# Altium footprint library Lib Pcb.PcbLib: 84 footprints (part 2 of 6)
Each footprint in its own frame and in the unit in brackets; x right, y up, seen from the top. Pads: shape width x height; smd on the part's side, far side on the other; paste and mask are expansions set on the pad; w line width, h text height; cw(c..) or ccw(c..) is an arc to the next point about the centre after c.
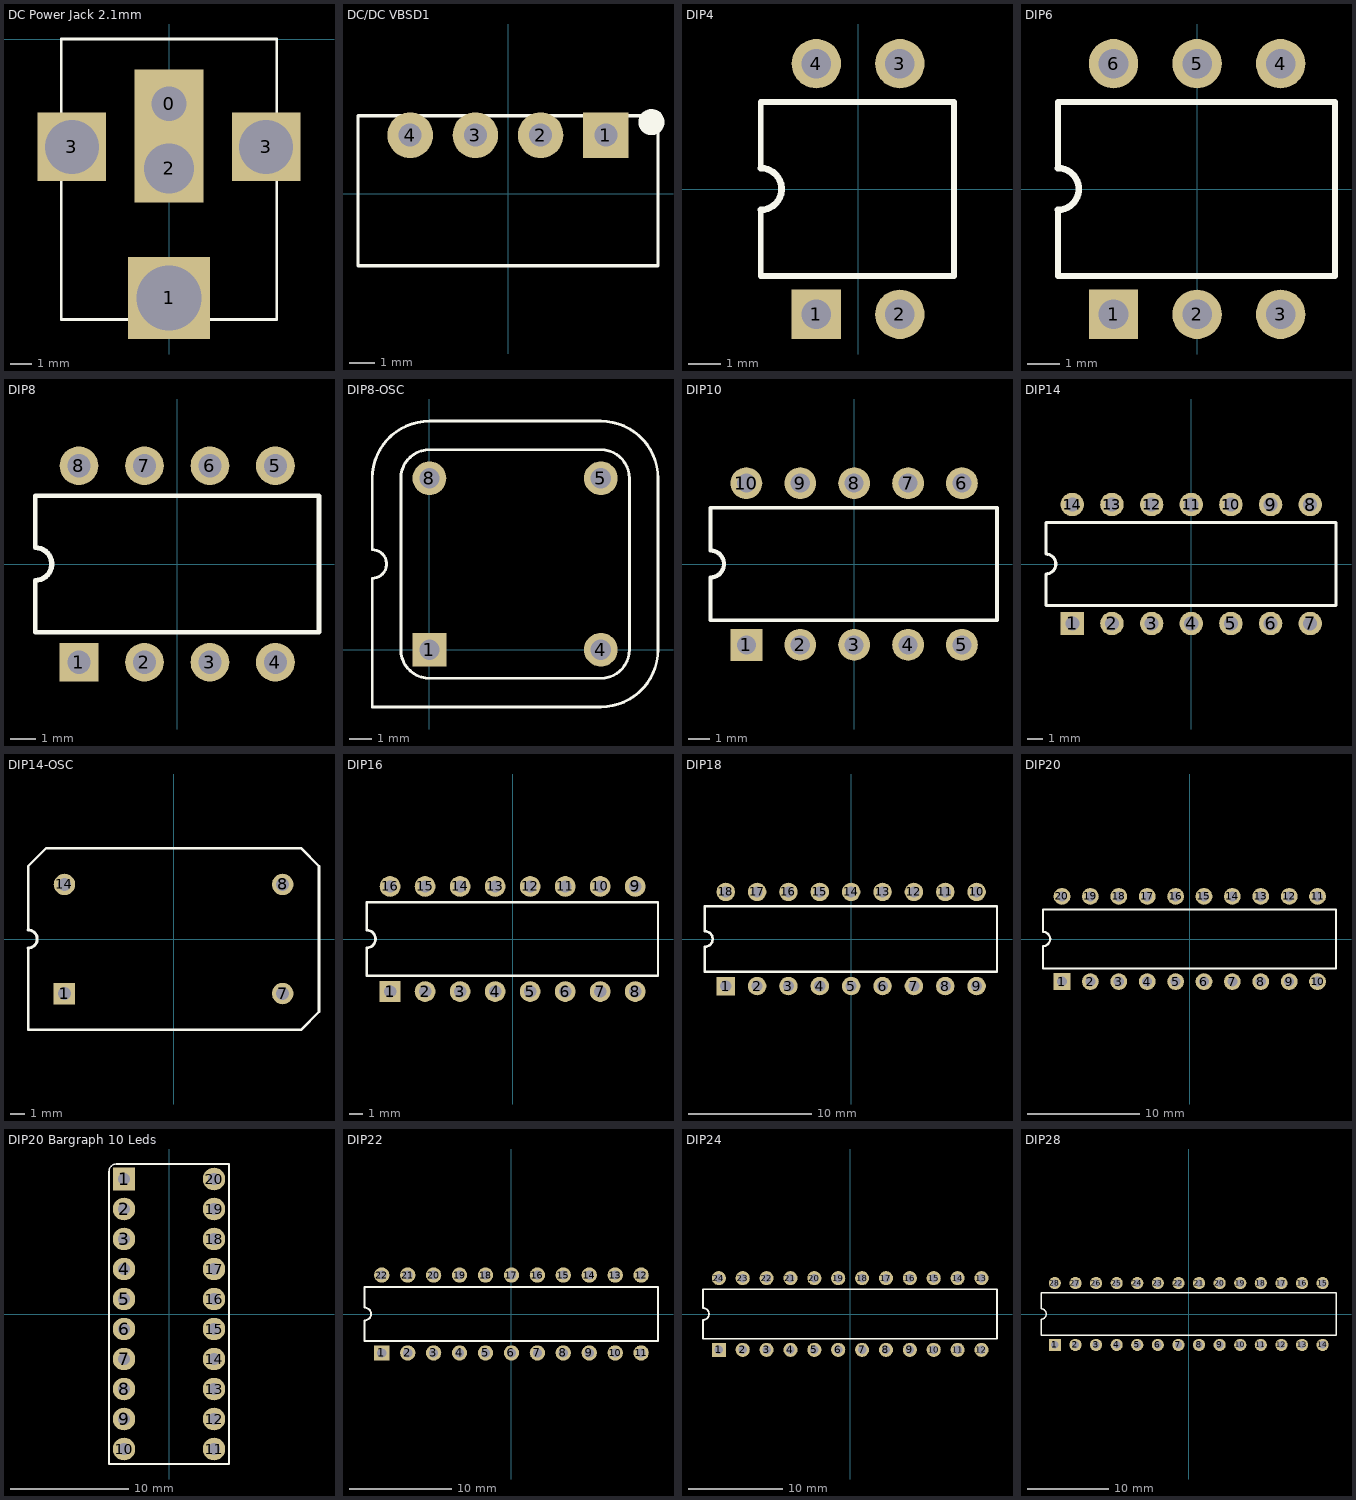
[diagram p1: the footprints below, top view; thin cyan lines are the x and y axes]

## DC Power Jack 2.1mm [mm] "CUI  PJ-063AH"
height 9.017
pads (5):
  rect 3.175x3.175 hole 1.6: 0(0,-3)
  rect 3.81x3.81 hole 3: 1(0,-12)
  rect 3.175x3.175 hole 2.301: 2(0,-6)
  rect 3.175x3.175 hole 2.499: 3(-4.5,-5) 3(4.5,-5)
Top Overlay:
  lines w0.127: -5,-13 5,-13 5,0 -5,0 -5,-13
3D body: height 8.99, standoff 0, extent -0.025,-0.013 0.025,0.112
3D body: height 5.03, standoff 4.98, extent -5,0 5,0.1
3D body: height 7.85, standoff 2.16, extent -2.8,0.013 2.8,0.088
3D body: height 8.99, standoff 0.13, extent -5,-12 5,-0.5
3D body: height 8.99, standoff 0.13, extent -5,-0.5 5,0
3D body: height 8.99, standoff 0.13, extent -5,-13 5,-12

## DC/DC VBSD1 [mil] "DC/DC"
height 400
pads (4):
  rect 70x70 hole 35.4: 1(150,90)
  round 70 hole 35.4: 2(50,90) 3(-50,90) 4(-150,90)
Top Overlay:
  circle w20: c220,110 r10
  lines w5: -230,-110 230,-110 230,120 -230,120 -230,-110
3D body: height 400, standoff 10, extent -230,-110 230,120

## DIP4 [mm] "DIP4"
height 3.81
pads (4):
  rect 1.5x1.5 hole 0.9: 1(-1.27,-3.81)
  round 1.5 hole 0.9: 2(1.27,-3.81) 3(1.27,3.81) 4(-1.27,3.81)
Top Overlay:
  lines w0.178: -2.96,-0.635 -2.96,-2.65 2.921,-2.65 2.921,2.65 -2.96,2.65 -2.96,0.635
  lines w0.2: -2.96,-0.635 ccw(c-2.96,0) -2.96,0.635
3D body: height 1.27, standoff 0.25, extent -1.651,2.794 -0.889,4.191
3D body: height 1.27, standoff 0.25, extent 0.889,-4.191 1.651,-2.794
3D body: height 1.27, standoff 0.25, extent 0.889,2.794 1.651,4.191
3D body: height 1.27, standoff 0.25, extent -1.651,-4.191 -0.889,-2.794
3D body: height 2.54, standoff 0.25, extent -3.048,-2.794 3.048,2.794
3D body: height 0.25, standoff -0.76, extent -1.648,-4.19 -0.889,-3.43
3D body: height 0.25, standoff -0.76, extent 0.892,-4.19 1.651,-3.43
3D body: height 0.25, standoff -0.76, extent 0.892,3.43 1.651,4.19
3D body: height 0.25, standoff -0.76, extent -1.648,3.43 -0.889,4.19

## DIP6 [mm] "DIP6"
height 3.81
pads (6):
  rect 1.5x1.5 hole 0.9: 1(-2.54,-3.81)
  round 1.5 hole 0.9: 2(0,-3.81) 3(2.54,-3.81) 4(2.54,3.81) 5(0,3.81) 6(-2.54,3.81)
Top Overlay:
  lines w0.178: -4.23,-0.635 -4.23,-2.65 4.191,-2.65 4.191,2.65 -4.23,2.65 -4.23,0.635
  lines w0.2: -4.23,-0.635 ccw(c-4.23,0) -4.23,0.635
3D body: height 2.54, standoff 0.25, extent -4.318,-2.794 4.318,2.794
3D body: height 1.27, standoff 0.25, extent -2.921,-4.191 -2.159,-2.794
3D body: height 1.27, standoff 0.25, extent -0.381,2.794 0.381,4.191
3D body: height 1.27, standoff 0.25, extent 2.159,2.794 2.921,4.191
3D body: height 1.27, standoff 0.25, extent -0.381,-4.191 0.381,-2.794
3D body: height 1.27, standoff 0.25, extent 2.159,-4.191 2.921,-2.794
3D body: height 1.27, standoff 0.25, extent -2.921,2.794 -2.159,4.191
3D body: height 0.25, standoff -0.76, extent -2.918,3.43 -2.159,4.19
3D body: height 0.25, standoff -0.76, extent -0.378,3.43 0.381,4.19
3D body: height 0.25, standoff -0.76, extent 2.162,3.43 2.921,4.19
3D body: height 0.25, standoff -0.76, extent 2.162,-4.19 2.921,-3.43
3D body: height 0.25, standoff -0.76, extent -0.378,-4.19 0.381,-3.43
3D body: height 0.25, standoff -0.76, extent -2.918,-4.19 -2.159,-3.43

## DIP8 [mm] "DIP8"
height 3.81
pads (8):
  rect 1.5x1.5 hole 0.9: 1(-3.81,-3.81)
  round 1.5 hole 0.9: 2(-1.27,-3.81) 3(1.27,-3.81) 4(3.81,-3.81) 5(3.81,3.81) 6(1.27,3.81) 7(-1.27,3.81) 8(-3.81,3.81)
Top Overlay:
  lines w0.178: -5.5,-0.635 -5.5,-2.65 5.5,-2.65 5.5,2.65 -5.5,2.65 -5.5,0.635
  lines w0.2: -5.5,-0.635 ccw(c-5.5,0) -5.5,0.635
3D body: height 2.54, standoff 0.25, extent -5.588,-2.794 5.588,2.794
3D body: height 1.27, standoff 0.25, extent -4.191,-4.191 -3.429,-2.794
3D body: height 1.27, standoff 0.25, extent -1.651,2.794 -0.889,4.191
3D body: height 1.27, standoff 0.25, extent 0.889,2.794 1.651,4.191
3D body: height 1.27, standoff 0.25, extent -1.651,-4.191 -0.889,-2.794
3D body: height 1.27, standoff 0.25, extent 0.889,-4.191 1.651,-2.794
3D body: height 1.27, standoff 0.25, extent 3.429,-4.191 4.191,-2.794
3D body: height 1.27, standoff 0.25, extent -4.191,2.794 -3.429,4.191
3D body: height 1.27, standoff 0.25, extent 3.429,2.794 4.191,4.191
3D body: height 0.25, standoff -0.76, extent -4.188,3.43 -3.429,4.19
3D body: height 0.25, standoff -0.76, extent -1.648,3.43 -0.889,4.19
3D body: height 0.25, standoff -0.76, extent 0.892,3.43 1.651,4.19
3D body: height 0.25, standoff -0.76, extent 3.432,3.43 4.191,4.19
3D body: height 0.25, standoff -0.76, extent 3.432,-4.19 4.191,-3.43
3D body: height 0.25, standoff -0.76, extent 0.892,-4.19 1.651,-3.43
3D body: height 0.25, standoff -0.76, extent -1.648,-4.19 -0.889,-3.43
3D body: height 0.25, standoff -0.76, extent -4.188,-4.19 -3.429,-3.43

## DIP8-OSC [mm] "DIP8-OSC"
height 3.81
pads (4):
  rect 1.5x1.5 hole 0.9: 1(0,0)
  round 1.5 hole 0.9: 4(7.62,0) 5(7.62,7.62) 8(0,7.62)
Top Overlay:
  lines w0.127: -2.54,-2.54 7.62,-2.54 ccw(c7.62,0) 10.16,0 10.16,7.62 ccw(c7.62,7.62) 7.62,10.16 0,10.16 ccw(c0,7.62) -2.54,7.62 -2.54,4.445 cw(c-2.54,3.81) -2.54,3.175 -2.54,-2.54 ; -1.27,0 ccw(c0,0) 0,-1.27 7.62,-1.27 ccw(c7.62,0) 8.89,0 8.89,7.62 ccw(c7.62,7.62) 7.62,8.89 0,8.89 ccw(c0,7.62) -1.27,7.62 -1.27,0
3D body: height 5.08, standoff 0.51, extent -1.27,-1.27 8.89,8.89
3D body: height 0.25, standoff -0.76, extent -0.378,-0.38 0.381,0.38
3D body: height 0.25, standoff -0.76, extent 7.242,-0.38 8.001,0.38
3D body: height 0.25, standoff -0.76, extent 7.242,7.24 8.001,8
3D body: height 0.25, standoff -0.76, extent -0.378,7.24 0.381,8
3D body: height 5.33, standoff 5.08, extent -0.831,-0.836 0.838,0.837
3D body: height 0.51, standoff 0.25, extent -2.54,-2.54 10.16,10.16

## DIP10 [mm] "DIP10"
height 3.81
pads (10):
  rect 1.5x1.5 hole 0.9: 1(-5.08,-3.81)
  round 1.5 hole 0.9: 2(-2.54,-3.81) 3(0,-3.81) 4(2.54,-3.81) 5(5.08,-3.81) 6(5.08,3.81) 7(2.54,3.81) 8(0,3.81) 9(-2.54,3.81) 10(-5.08,3.81)
Top Overlay:
  lines w0.178: -6.77,-0.635 -6.77,-2.65 6.731,-2.65 6.731,2.65 -6.77,2.65 -6.77,0.635
  lines w0.2: -6.77,-0.635 ccw(c-6.77,0) -6.77,0.635
3D body: height 1.27, standoff 0.25, extent 4.699,2.794 5.461,4.191
3D body: height 2.54, standoff 0.25, extent -6.858,-2.794 6.858,2.794
3D body: height 1.27, standoff 0.25, extent -2.921,2.794 -2.159,4.191
3D body: height 1.27, standoff 0.25, extent -0.381,2.794 0.381,4.191
3D body: height 1.27, standoff 0.25, extent -5.461,2.794 -4.699,4.191
3D body: height 1.27, standoff 0.25, extent 2.159,2.794 2.921,4.191
3D body: height 1.27, standoff 0.25, extent 4.699,-4.191 5.461,-2.794
3D body: height 1.27, standoff 0.25, extent -2.921,-4.191 -2.159,-2.794
3D body: height 1.27, standoff 0.25, extent -0.381,-4.191 0.381,-2.794
3D body: height 1.27, standoff 0.25, extent -5.461,-4.191 -4.699,-2.794
3D body: height 1.27, standoff 0.25, extent 2.159,-4.191 2.921,-2.794
3D body: height 0.25, standoff -0.76, extent -5.458,3.43 -4.699,4.19
3D body: height 0.25, standoff -0.76, extent -2.918,3.43 -2.159,4.19
3D body: height 0.25, standoff -0.76, extent -0.378,3.43 0.381,4.19
3D body: height 0.25, standoff -0.76, extent 2.162,3.43 2.921,4.19
3D body: height 0.25, standoff -0.76, extent 4.702,3.43 5.461,4.19
3D body: height 0.25, standoff -0.76, extent 4.702,-4.19 5.461,-3.43
3D body: height 0.25, standoff -0.76, extent 2.162,-4.19 2.921,-3.43
3D body: height 0.25, standoff -0.76, extent -0.378,-4.19 0.381,-3.43
3D body: height 0.25, standoff -0.76, extent -2.918,-4.19 -2.159,-3.43
3D body: height 0.25, standoff -0.76, extent -5.458,-4.19 -4.699,-3.43

## DIP14 [mm] "DIP14"
height 3.81
pads (14):
  rect 1.5x1.5 hole 0.9: 1(-7.62,-3.81)
  round 1.5 hole 0.9: 2(-5.08,-3.81) 3(-2.54,-3.81) 4(0,-3.81) 5(2.54,-3.81) 6(5.08,-3.81) 7(7.62,-3.81) 8(7.62,3.81) 9(5.08,3.81) 10(2.54,3.81) 11(0,3.81) 12(-2.54,3.81) 13(-5.08,3.81) 14(-7.62,3.81)
Top Overlay:
  lines w0.178: -9.31,-0.635 -9.31,-2.65 9.271,-2.65 9.271,2.65 -9.31,2.65 -9.31,0.635
  lines w0.2: -9.31,-0.635 ccw(c-9.31,0) -9.31,0.635
3D body: height 1.27, standoff 0.25, extent -0.381,-4.191 0.381,-2.794
3D body: height 1.27, standoff 0.25, extent -8.001,-4.191 -7.239,-2.794
3D body: height 1.27, standoff 0.25, extent -2.921,-4.191 -2.159,-2.794
3D body: height 1.27, standoff 0.25, extent -5.461,-4.191 -4.699,-2.794
3D body: height 1.27, standoff 0.25, extent 2.159,-4.191 2.921,-2.794
3D body: height 1.27, standoff 0.25, extent 4.699,-4.191 5.461,-2.794
3D body: height 1.27, standoff 0.25, extent -0.381,2.794 0.381,4.191
3D body: height 1.27, standoff 0.25, extent -8.001,2.794 -7.239,4.191
3D body: height 1.27, standoff 0.25, extent -2.921,2.794 -2.159,4.191
3D body: height 1.27, standoff 0.25, extent -5.461,2.794 -4.699,4.191
3D body: height 2.54, standoff 0.25, extent -9.398,-2.794 9.398,2.794
3D body: height 1.27, standoff 0.25, extent 7.239,-4.191 8.001,-2.794
3D body: height 1.27, standoff 0.25, extent 4.699,2.794 5.461,4.191
3D body: height 1.27, standoff 0.25, extent 7.239,2.794 8.001,4.191
3D body: height 1.27, standoff 0.25, extent 2.159,2.794 2.921,4.191
3D body: height 0.25, standoff -0.76, extent -7.998,3.43 -7.239,4.19
3D body: height 0.25, standoff -0.76, extent -5.458,3.43 -4.699,4.19
3D body: height 0.25, standoff -0.76, extent -2.918,3.43 -2.159,4.19
3D body: height 0.25, standoff -0.76, extent -0.378,3.43 0.381,4.19
3D body: height 0.25, standoff -0.76, extent 2.162,3.43 2.921,4.19
3D body: height 0.25, standoff -0.76, extent 4.702,3.43 5.461,4.19
3D body: height 0.25, standoff -0.76, extent 7.242,3.43 8.001,4.19
3D body: height 0.25, standoff -0.76, extent 7.242,-4.19 8.001,-3.43
3D body: height 0.25, standoff -0.76, extent 4.702,-4.19 5.461,-3.43
3D body: height 0.25, standoff -0.76, extent 2.162,-4.19 2.921,-3.43
3D body: height 0.25, standoff -0.76, extent -0.378,-4.19 0.381,-3.43
3D body: height 0.25, standoff -0.76, extent -2.918,-4.19 -2.159,-3.43
3D body: height 0.25, standoff -0.76, extent -5.458,-4.19 -4.699,-3.43
3D body: height 0.25, standoff -0.76, extent -7.998,-4.19 -7.239,-3.43

## DIP14-OSC [mm] "DIP14-OSC"
height 3.81
pads (4):
  rect 1.5x1.5 hole 0.9: 1(-7.62,-3.81)
  round 1.5 hole 0.9: 7(7.62,-3.81) 8(7.62,3.81) 14(-7.62,3.81)
Top Overlay:
  lines w0.178: -10.16,-0.635 -10.16,-6.35 8.89,-6.35 10.16,-5.08 10.16,5.08 8.89,6.35 -8.89,6.35 -10.16,5.08 -10.16,0.635
  lines w0.2: -10.16,-0.635 ccw(c-10.16,0) -10.16,0.635
3D body: height 0.25, standoff -0.76, extent -7.998,-4.19 -7.239,-3.43
3D body: height 0.25, standoff -0.76, extent 7.242,-4.19 8.001,-3.43
3D body: height 0.25, standoff -0.76, extent 7.242,3.43 8.001,4.19
3D body: height 0.25, standoff -0.76, extent -7.998,3.43 -7.239,4.19
3D body: height 5.33, standoff 5.08, extent -9.874,-6.069 -8.204,-4.396
3D body: height 5.08, standoff 0.25, extent -10.16,-6.35 10.16,6.35

## DIP16 [mm] "DIP16"
height 3.81
pads (16):
  rect 1.5x1.5 hole 0.9: 1(-8.89,-3.81)
  round 1.5 hole 0.9: 2(-6.35,-3.81) 3(-3.81,-3.81) 4(-1.27,-3.81) 5(1.27,-3.81) 6(3.81,-3.81) 7(6.35,-3.81) 8(8.89,-3.81) 9(8.89,3.81) 10(6.35,3.81) 11(3.81,3.81) 12(1.27,3.81) 13(-1.27,3.81) 14(-3.81,3.81) 15(-6.35,3.81) 16(-8.89,3.81)
Top Overlay:
  lines w0.178: -10.58,-0.635 -10.58,-2.65 10.541,-2.65 10.541,2.65 -10.58,2.65 -10.58,0.635
  lines w0.2: -10.58,-0.635 ccw(c-10.58,0) -10.58,0.635
3D body: height 1.27, standoff 0.25, extent -9.271,2.794 -8.509,4.191
3D body: height 1.27, standoff 0.25, extent -6.731,2.794 -5.969,4.191
3D body: height 1.27, standoff 0.25, extent 5.969,2.794 6.731,4.191
3D body: height 1.27, standoff 0.25, extent 8.509,-4.191 9.271,-2.794
3D body: height 1.27, standoff 0.25, extent 8.509,2.794 9.271,4.191
3D body: height 1.27, standoff 0.25, extent 5.969,-4.191 6.731,-2.794
3D body: height 2.54, standoff 0.25, extent -10.668,-2.794 10.668,2.794
3D body: height 1.27, standoff 0.25, extent -1.651,2.794 -0.889,4.191
3D body: height 1.27, standoff 0.25, extent 0.889,2.794 1.651,4.191
3D body: height 1.27, standoff 0.25, extent -4.191,2.794 -3.429,4.191
3D body: height 1.27, standoff 0.25, extent 3.429,2.794 4.191,4.191
3D body: height 1.27, standoff 0.25, extent 3.429,-4.191 4.191,-2.794
3D body: height 1.27, standoff 0.25, extent 0.889,-4.191 1.651,-2.794
3D body: height 1.27, standoff 0.25, extent -6.731,-4.191 -5.969,-2.794
3D body: height 1.27, standoff 0.25, extent -4.191,-4.191 -3.429,-2.794
3D body: height 1.27, standoff 0.25, extent -9.271,-4.191 -8.509,-2.794
3D body: height 1.27, standoff 0.25, extent -1.651,-4.191 -0.889,-2.794
3D body: height 0.25, standoff -0.76, extent -6.728,3.43 -5.969,4.19
3D body: height 0.25, standoff -0.76, extent -4.188,3.43 -3.429,4.19
3D body: height 0.25, standoff -0.76, extent -1.648,3.43 -0.889,4.19
3D body: height 0.25, standoff -0.76, extent 0.892,3.43 1.651,4.19
3D body: height 0.25, standoff -0.76, extent 3.432,3.43 4.191,4.19
3D body: height 0.25, standoff -0.76, extent 5.972,3.43 6.731,4.19
3D body: height 0.25, standoff -0.76, extent 8.512,3.43 9.271,4.19
3D body: height 0.25, standoff -0.76, extent 8.512,-4.19 9.271,-3.43
3D body: height 0.25, standoff -0.76, extent 5.972,-4.19 6.731,-3.43
3D body: height 0.25, standoff -0.76, extent 3.432,-4.19 4.191,-3.43
3D body: height 0.25, standoff -0.76, extent 0.892,-4.19 1.651,-3.43
3D body: height 0.25, standoff -0.76, extent -1.648,-4.19 -0.889,-3.43
3D body: height 0.25, standoff -0.76, extent -4.188,-4.19 -3.429,-3.43
3D body: height 0.25, standoff -0.76, extent -6.728,-4.19 -5.969,-3.43
3D body: height 0.25, standoff -0.76, extent -9.268,-4.19 -8.509,-3.43
3D body: height 0.25, standoff -0.76, extent -9.268,3.43 -8.509,4.19

## DIP18 [mm] "DIP18"
height 3.81
pads (18):
  rect 1.5x1.5 hole 0.9: 1(-10.16,-3.81)
  round 1.5 hole 0.9: 2(-7.62,-3.81) 3(-5.08,-3.81) 4(-2.54,-3.81) 5(0,-3.81) 6(2.54,-3.81) 7(5.08,-3.81) 8(7.62,-3.81) 9(10.16,-3.81) 10(10.16,3.81) 11(7.62,3.81) 12(5.08,3.81) 13(2.54,3.81) 14(0,3.81) 15(-2.54,3.81) 16(-5.08,3.81) 17(-7.62,3.81) 18(-10.16,3.81)
Top Overlay:
  lines w0.178: -11.85,-0.635 -11.85,-2.65 11.811,-2.65 11.811,2.65 -11.85,2.65 -11.85,0.635
  lines w0.2: -11.85,-0.635 ccw(c-11.85,0) -11.85,0.635
3D body: height 1.27, standoff 0.25, extent -8.001,2.794 -7.239,4.191
3D body: height 1.27, standoff 0.25, extent -10.541,2.794 -9.779,4.191
3D body: height 1.27, standoff 0.25, extent -5.461,2.794 -4.699,4.191
3D body: height 1.27, standoff 0.25, extent -2.921,2.794 -2.159,4.191
3D body: height 1.27, standoff 0.25, extent 9.779,2.794 10.541,4.191
3D body: height 1.27, standoff 0.25, extent 7.239,-4.191 8.001,-2.794
3D body: height 1.27, standoff 0.25, extent 9.779,-4.191 10.541,-2.794
3D body: height 1.27, standoff 0.25, extent 4.699,-4.191 5.461,-2.794
3D body: height 2.54, standoff 0.25, extent -11.938,-2.794 11.938,2.794
3D body: height 1.27, standoff 0.25, extent 2.159,2.794 2.921,4.191
3D body: height 1.27, standoff 0.25, extent 4.699,2.794 5.461,4.191
3D body: height 1.27, standoff 0.25, extent -0.381,2.794 0.381,4.191
3D body: height 1.27, standoff 0.25, extent 7.239,2.794 8.001,4.191
3D body: height 1.27, standoff 0.25, extent 2.159,-4.191 2.921,-2.794
3D body: height 1.27, standoff 0.25, extent -0.381,-4.191 0.381,-2.794
3D body: height 1.27, standoff 0.25, extent -8.001,-4.191 -7.239,-2.794
3D body: height 1.27, standoff 0.25, extent -5.461,-4.191 -4.699,-2.794
3D body: height 1.27, standoff 0.25, extent -10.541,-4.191 -9.779,-2.794
3D body: height 1.27, standoff 0.25, extent -2.921,-4.191 -2.159,-2.794
3D body: height 0.25, standoff -0.76, extent -10.538,3.43 -9.779,4.19
3D body: height 0.25, standoff -0.76, extent -7.998,3.43 -7.239,4.19
3D body: height 0.25, standoff -0.76, extent -5.458,3.43 -4.699,4.19
3D body: height 0.25, standoff -0.76, extent -2.918,3.43 -2.159,4.19
3D body: height 0.25, standoff -0.76, extent -0.378,3.43 0.381,4.19
3D body: height 0.25, standoff -0.76, extent 2.162,3.43 2.921,4.19
3D body: height 0.25, standoff -0.76, extent 4.702,3.43 5.461,4.19
3D body: height 0.25, standoff -0.76, extent 7.242,3.43 8.001,4.19
3D body: height 0.25, standoff -0.76, extent 9.782,3.43 10.541,4.19
3D body: height 0.25, standoff -0.76, extent 9.782,-4.19 10.541,-3.43
3D body: height 0.25, standoff -0.76, extent 7.242,-4.19 8.001,-3.43
3D body: height 0.25, standoff -0.76, extent 4.702,-4.19 5.461,-3.43
3D body: height 0.25, standoff -0.76, extent 2.162,-4.19 2.921,-3.43
3D body: height 0.25, standoff -0.76, extent -0.378,-4.19 0.381,-3.43
3D body: height 0.25, standoff -0.76, extent -2.918,-4.19 -2.159,-3.43
3D body: height 0.25, standoff -0.76, extent -5.458,-4.19 -4.699,-3.43
3D body: height 0.25, standoff -0.76, extent -7.998,-4.19 -7.239,-3.43
3D body: height 0.25, standoff -0.76, extent -10.538,-4.19 -9.779,-3.43

## DIP20 [mm] "DIP20"
height 3.81
pads (20):
  rect 1.5x1.5 hole 0.9: 1(-11.43,-3.81)
  round 1.5 hole 0.9: 2(-8.89,-3.81) 3(-6.35,-3.81) 4(-3.81,-3.81) 5(-1.27,-3.81) 6(1.27,-3.81) 7(3.81,-3.81) 8(6.35,-3.81) 9(8.89,-3.81) 10(11.43,-3.81) 11(11.43,3.81) 12(8.89,3.81) 13(6.35,3.81) 14(3.81,3.81) 15(1.27,3.81) 16(-1.27,3.81) 17(-3.81,3.81) 18(-6.35,3.81) 19(-8.89,3.81) 20(-11.43,3.81)
Top Overlay:
  lines w0.178: -13.12,-0.635 -13.12,-2.65 13.081,-2.65 13.081,2.65 -13.12,2.65 -13.12,0.635
  lines w0.2: -13.12,-0.635 ccw(c-13.12,0) -13.12,0.635
3D body: height 0.25, standoff -0.76, extent -11.808,-4.19 -11.049,-3.43
3D body: height 0.25, standoff -0.76, extent -9.268,-4.19 -8.509,-3.43
3D body: height 0.25, standoff -0.76, extent -6.728,-4.19 -5.969,-3.43
3D body: height 0.25, standoff -0.76, extent -4.188,-4.19 -3.429,-3.43
3D body: height 0.25, standoff -0.76, extent -1.648,-4.19 -0.889,-3.43
3D body: height 0.25, standoff -0.76, extent 0.892,-4.19 1.651,-3.43
3D body: height 0.25, standoff -0.76, extent 3.432,-4.19 4.191,-3.43
3D body: height 0.25, standoff -0.76, extent 5.972,-4.19 6.731,-3.43
3D body: height 0.25, standoff -0.76, extent 8.512,-4.19 9.271,-3.43
3D body: height 0.25, standoff -0.76, extent 11.052,-4.19 11.811,-3.43
3D body: height 0.25, standoff -0.76, extent 11.052,3.43 11.811,4.19
3D body: height 0.25, standoff -0.76, extent 8.512,3.43 9.271,4.19
3D body: height 0.25, standoff -0.76, extent 5.972,3.43 6.731,4.19
3D body: height 0.25, standoff -0.76, extent 3.432,3.43 4.191,4.19
3D body: height 0.25, standoff -0.76, extent 0.892,3.43 1.651,4.19
3D body: height 0.25, standoff -0.76, extent -1.648,3.43 -0.889,4.19
3D body: height 0.25, standoff -0.76, extent -4.188,3.43 -3.429,4.19
3D body: height 0.25, standoff -0.76, extent -6.728,3.43 -5.969,4.19
3D body: height 0.25, standoff -0.76, extent -9.268,3.43 -8.509,4.19
3D body: height 0.25, standoff -0.76, extent -11.808,3.43 -11.049,4.19
3D body: height 1.27, standoff 0.25, extent 0.889,2.794 1.651,4.191
3D body: height 1.27, standoff 0.25, extent -1.651,2.794 -0.889,4.191
3D body: height 1.27, standoff 0.25, extent 3.429,2.794 4.191,4.191
3D body: height 1.27, standoff 0.25, extent 5.969,2.794 6.731,4.191
3D body: height 1.27, standoff 0.25, extent 11.049,-4.191 11.811,-2.794
3D body: height 1.27, standoff 0.25, extent 5.969,-4.191 6.731,-2.794
3D body: height 1.27, standoff 0.25, extent 8.509,-4.191 9.271,-2.794
3D body: height 1.27, standoff 0.25, extent 3.429,-4.191 4.191,-2.794
3D body: height 2.54, standoff 0.25, extent -13.208,-2.794 13.208,2.794
3D body: height 1.27, standoff 0.25, extent 11.049,2.794 11.811,4.191
3D body: height 1.27, standoff 0.25, extent 8.509,2.794 9.271,4.191
3D body: height 1.27, standoff 0.25, extent 0.889,-4.191 1.651,-2.794
3D body: height 1.27, standoff 0.25, extent -1.651,-4.191 -0.889,-2.794
3D body: height 1.27, standoff 0.25, extent -9.271,-4.191 -8.509,-2.794
3D body: height 1.27, standoff 0.25, extent -6.731,-4.191 -5.969,-2.794
3D body: height 1.27, standoff 0.25, extent -11.811,-4.191 -11.049,-2.794
3D body: height 1.27, standoff 0.25, extent -4.191,-4.191 -3.429,-2.794
3D body: height 1.27, standoff 0.25, extent -6.731,2.794 -5.969,4.191
3D body: height 1.27, standoff 0.25, extent -4.191,2.794 -3.429,4.191
3D body: height 1.27, standoff 0.25, extent -11.811,2.794 -11.049,4.191
3D body: height 1.27, standoff 0.25, extent -9.271,2.794 -8.509,4.191

## DIP20 Bargraph 10 Leds [mil] "Bargraph 10 Leds"
height 315
pads (20):
  rect 75x75 hole 40: 1(-150,450)
  round 75 hole 40: 2(-150,350) 3(-150,250) 4(-150,150) 5(-150,50) 6(-150,-50) 7(-150,-150) 8(-150,-250) 9(-150,-350) 10(-150,-450) 11(150,-450) 12(150,-350) 13(150,-250) 14(150,-150) 15(150,-50) 16(150,50) 17(150,150) 18(150,250) 19(150,350) 20(150,450)
Top Overlay:
  lines w5: -200,475 cw(c-175,475) -175,500
  lines w7: -200,475 -200,-500 200,-500 200,500 -175,500
3D body: height 330, standoff 300, extent -164.84,435.07 -135,464.94
3D body: height 315, standoff 300, extent -100,-475 100,-425
3D body: height 315, standoff 300, extent -100,-375 100,-325
3D body: height 315, standoff 300, extent -100,-275 100,-225
3D body: height 315, standoff 300, extent -100,-175 100,-125
3D body: height 315, standoff 300, extent -100,-75 100,-25
3D body: height 315, standoff 300, extent -100,25 100,75
3D body: height 315, standoff 300, extent -100,125 100,175
3D body: height 315, standoff 300, extent -100,225 100,275
3D body: height 315, standoff 300, extent -100,325 100,375
3D body: height 315, standoff 300, extent -100,425 100,475
3D body: height 10, standoff -30, extent 135.12,-364.96 165,-335.02
3D body: height 10, standoff -30, extent -164.88,-364.96 -135,-335.02
3D body: height 10, standoff -30, extent -164.88,-264.96 -135,-235.02
3D body: height 10, standoff -30, extent -164.88,-164.96 -134.99,-135.02
3D body: height 10, standoff -30, extent -164.88,-64.96 -135,-35.02
3D body: height 10, standoff -30, extent -164.88,35.04 -135,64.98
3D body: height 10, standoff -30, extent -164.88,135.04 -135,164.98
3D body: height 10, standoff -30, extent -164.88,235.04 -134.99,264.98
3D body: height 10, standoff -30, extent 135.12,-264.96 165,-235.02
3D body: height 10, standoff -30, extent 135.12,-164.96 165,-135.02
3D body: height 10, standoff -30, extent 135.12,-64.96 165.01,-35.02
3D body: height 10, standoff -30, extent 135.12,35.04 165,64.98
3D body: height 10, standoff -30, extent 135.12,135.04 165.01,164.98
3D body: height 10, standoff -30, extent 135.12,235.04 165,264.98
3D body: height 10, standoff -30, extent -164.88,235.04 -135,264.98
3D body: height 10, standoff -30, extent -164.88,335.04 -135,364.98
3D body: height 10, standoff -30, extent 135.12,335.04 165.01,364.98
3D body: height 10, standoff -30, extent 135.12,435.04 165,464.98
3D body: height 10, standoff -30, extent 135.12,-464.96 165.01,-435.02
3D body: height 10, standoff -30, extent -164.88,-464.96 -135,-435.02
3D body: height 10, standoff -30, extent -164.88,435.04 -135,464.98
3D body: height 310, standoff 0, extent -200,-500 200,500

## DIP22 [mm] "DIP22"
height 3.81
pads (22):
  rect 1.5x1.5 hole 0.9: 1(-12.7,-3.81)
  round 1.5 hole 0.9: 2(-10.16,-3.81) 3(-7.62,-3.81) 4(-5.08,-3.81) 5(-2.54,-3.81) 6(0,-3.81) 7(2.54,-3.81) 8(5.08,-3.81) 9(7.62,-3.81) 10(10.16,-3.81) 11(12.7,-3.81) 12(12.7,3.81) 13(10.16,3.81) 14(7.62,3.81) 15(5.08,3.81) 16(2.54,3.81) 17(0,3.81) 18(-2.54,3.81) 19(-5.08,3.81) 20(-7.62,3.81) 21(-10.16,3.81) 22(-12.7,3.81)
Top Overlay:
  lines w0.178: -14.39,-0.635 -14.39,-2.65 14.351,-2.65 14.351,2.65 -14.39,2.65 -14.39,0.635
  lines w0.2: -14.39,-0.635 ccw(c-14.39,0) -14.39,0.635
3D body: height 0.25, standoff -0.76, extent -13.078,-4.19 -12.319,-3.43
3D body: height 0.25, standoff -0.76, extent -10.538,-4.19 -9.779,-3.43
3D body: height 0.25, standoff -0.76, extent -7.998,-4.19 -7.239,-3.43
3D body: height 0.25, standoff -0.76, extent -5.458,-4.19 -4.699,-3.43
3D body: height 0.25, standoff -0.76, extent -2.918,-4.19 -2.159,-3.43
3D body: height 0.25, standoff -0.76, extent -0.378,-4.19 0.381,-3.43
3D body: height 0.25, standoff -0.76, extent 2.162,-4.19 2.921,-3.43
3D body: height 0.25, standoff -0.76, extent 4.702,-4.19 5.461,-3.43
3D body: height 0.25, standoff -0.76, extent 7.242,-4.19 8.001,-3.43
3D body: height 0.25, standoff -0.76, extent 9.782,-4.19 10.541,-3.43
3D body: height 0.25, standoff -0.76, extent 12.322,-4.19 13.081,-3.43
3D body: height 0.25, standoff -0.76, extent 12.322,3.43 13.081,4.19
3D body: height 0.25, standoff -0.76, extent 9.782,3.43 10.541,4.19
3D body: height 0.25, standoff -0.76, extent 7.242,3.43 8.001,4.19
3D body: height 0.25, standoff -0.76, extent 4.702,3.43 5.461,4.19
3D body: height 0.25, standoff -0.76, extent 2.162,3.43 2.921,4.19
3D body: height 0.25, standoff -0.76, extent -0.378,3.43 0.381,4.19
3D body: height 0.25, standoff -0.76, extent -2.918,3.43 -2.159,4.19
3D body: height 0.25, standoff -0.76, extent -5.458,3.43 -4.699,4.19
3D body: height 0.25, standoff -0.76, extent -7.998,3.43 -7.239,4.19
3D body: height 0.25, standoff -0.76, extent -10.538,3.43 -9.779,4.19
3D body: height 0.25, standoff -0.76, extent -13.078,3.43 -12.319,4.19
3D body: height 1.27, standoff 0.25, extent -10.541,2.794 -9.779,4.191
3D body: height 1.27, standoff 0.25, extent -13.081,2.794 -12.319,4.191
3D body: height 1.27, standoff 0.25, extent -5.461,2.794 -4.699,4.191
3D body: height 1.27, standoff 0.25, extent -8.001,2.794 -7.239,4.191
3D body: height 1.27, standoff 0.25, extent -5.461,-4.191 -4.699,-2.794
3D body: height 1.27, standoff 0.25, extent -13.081,-4.191 -12.319,-2.794
3D body: height 1.27, standoff 0.25, extent -8.001,-4.191 -7.239,-2.794
3D body: height 1.27, standoff 0.25, extent -10.541,-4.191 -9.779,-2.794
3D body: height 1.27, standoff 0.25, extent -2.921,-4.191 -2.159,-2.794
3D body: height 1.27, standoff 0.25, extent -0.381,-4.191 0.381,-2.794
3D body: height 1.27, standoff 0.25, extent 7.239,2.794 8.001,4.191
3D body: height 1.27, standoff 0.25, extent 12.319,-4.191 13.081,-2.794
3D body: height 1.27, standoff 0.25, extent 9.779,2.794 10.541,4.191
3D body: height 2.54, standoff 0.25, extent -14.478,-2.794 14.478,2.794
3D body: height 1.27, standoff 0.25, extent 2.159,-4.191 2.921,-2.794
3D body: height 1.27, standoff 0.25, extent 7.239,-4.191 8.001,-2.794
3D body: height 1.27, standoff 0.25, extent 4.699,-4.191 5.461,-2.794
3D body: height 1.27, standoff 0.25, extent 9.779,-4.191 10.541,-2.794
3D body: height 1.27, standoff 0.25, extent 4.699,2.794 5.461,4.191
3D body: height 1.27, standoff 0.25, extent 2.159,2.794 2.921,4.191
3D body: height 1.27, standoff 0.25, extent -2.921,2.794 -2.159,4.191
3D body: height 1.27, standoff 0.25, extent -0.381,2.794 0.381,4.191
3D body: height 1.27, standoff 0.25, extent 12.319,2.794 13.081,4.191

## DIP24 [mm] "DIP24"
height 3.81
pads (24):
  rect 1.5x1.5 hole 0.9: 1(-13.97,-3.81)
  round 1.5 hole 0.9: 2(-11.43,-3.81) 3(-8.89,-3.81) 4(-6.35,-3.81) 5(-3.81,-3.81) 6(-1.27,-3.81) 7(1.27,-3.81) 8(3.81,-3.81) 9(6.35,-3.81) 10(8.89,-3.81) 11(11.43,-3.81) 12(13.97,-3.81) 13(13.97,3.81) 14(11.43,3.81) 15(8.89,3.81) 16(6.35,3.81) 17(3.81,3.81) 18(1.27,3.81) 19(-1.27,3.81) 20(-3.81,3.81) 21(-6.35,3.81) 22(-8.89,3.81) 23(-11.43,3.81) 24(-13.97,3.81)
Top Overlay:
  lines w0.178: -15.66,-0.635 -15.66,-2.65 15.621,-2.65 15.621,2.65 -15.66,2.65 -15.66,0.635
  lines w0.2: -15.66,-0.635 ccw(c-15.66,0) -15.66,0.635
3D body: height 1.27, standoff 0.25, extent 3.429,2.794 4.191,4.191
3D body: height 1.27, standoff 0.25, extent 0.889,2.794 1.651,4.191
3D body: height 1.27, standoff 0.25, extent 5.969,2.794 6.731,4.191
3D body: height 1.27, standoff 0.25, extent 8.509,2.794 9.271,4.191
3D body: height 1.27, standoff 0.25, extent 8.509,-4.191 9.271,-2.794
3D body: height 1.27, standoff 0.25, extent 3.429,-4.191 4.191,-2.794
3D body: height 1.27, standoff 0.25, extent 5.969,-4.191 6.731,-2.794
3D body: height 1.27, standoff 0.25, extent 0.889,-4.191 1.651,-2.794
3D body: height 2.54, standoff 0.25, extent -15.748,-2.794 15.748,2.794
3D body: height 1.27, standoff 0.25, extent 13.589,2.794 14.351,4.191
3D body: height 1.27, standoff 0.25, extent 11.049,-4.191 11.811,-2.794
3D body: height 1.27, standoff 0.25, extent 11.049,2.794 11.811,4.191
3D body: height 1.27, standoff 0.25, extent 13.589,-4.191 14.351,-2.794
3D body: height 1.27, standoff 0.25, extent -1.651,-4.191 -0.889,-2.794
3D body: height 1.27, standoff 0.25, extent -4.191,-4.191 -3.429,-2.794
3D body: height 1.27, standoff 0.25, extent -11.811,-4.191 -11.049,-2.794
3D body: height 1.27, standoff 0.25, extent -9.271,-4.191 -8.509,-2.794
3D body: height 1.27, standoff 0.25, extent -14.351,-4.191 -13.589,-2.794
3D body: height 1.27, standoff 0.25, extent -6.731,-4.191 -5.969,-2.794
3D body: height 1.27, standoff 0.25, extent -4.191,2.794 -3.429,4.191
3D body: height 1.27, standoff 0.25, extent -1.651,2.794 -0.889,4.191
3D body: height 1.27, standoff 0.25, extent -11.811,2.794 -11.049,4.191
3D body: height 1.27, standoff 0.25, extent -14.351,2.794 -13.589,4.191
3D body: height 1.27, standoff 0.25, extent -9.271,2.794 -8.509,4.191
3D body: height 1.27, standoff 0.25, extent -6.731,2.794 -5.969,4.191
3D body: height 0.25, standoff -0.76, extent -14.348,3.43 -13.589,4.19
3D body: height 0.25, standoff -0.76, extent -11.808,3.43 -11.049,4.19
3D body: height 0.25, standoff -0.76, extent -9.268,3.43 -8.509,4.19
3D body: height 0.25, standoff -0.76, extent -6.728,3.43 -5.969,4.19
3D body: height 0.25, standoff -0.76, extent -4.188,3.43 -3.429,4.19
3D body: height 0.25, standoff -0.76, extent -1.648,3.43 -0.889,4.19
3D body: height 0.25, standoff -0.76, extent 0.892,3.43 1.651,4.19
3D body: height 0.25, standoff -0.76, extent 3.432,3.43 4.191,4.19
3D body: height 0.25, standoff -0.76, extent 5.972,3.43 6.731,4.19
3D body: height 0.25, standoff -0.76, extent 8.512,3.43 9.271,4.19
3D body: height 0.25, standoff -0.76, extent 11.052,3.43 11.811,4.19
3D body: height 0.25, standoff -0.76, extent 13.592,3.43 14.351,4.19
3D body: height 0.25, standoff -0.76, extent 13.592,-4.19 14.351,-3.43
3D body: height 0.25, standoff -0.76, extent 11.052,-4.19 11.811,-3.43
3D body: height 0.25, standoff -0.76, extent 8.512,-4.19 9.271,-3.43
3D body: height 0.25, standoff -0.76, extent 5.972,-4.19 6.731,-3.43
3D body: height 0.25, standoff -0.76, extent 3.432,-4.19 4.191,-3.43
3D body: height 0.25, standoff -0.76, extent 0.892,-4.19 1.651,-3.43
3D body: height 0.25, standoff -0.76, extent -1.648,-4.19 -0.889,-3.43
3D body: height 0.25, standoff -0.76, extent -4.188,-4.19 -3.429,-3.43
3D body: height 0.25, standoff -0.76, extent -6.728,-4.19 -5.969,-3.43
3D body: height 0.25, standoff -0.76, extent -9.268,-4.19 -8.509,-3.43
3D body: height 0.25, standoff -0.76, extent -11.808,-4.19 -11.049,-3.43
3D body: height 0.25, standoff -0.76, extent -14.348,-4.19 -13.589,-3.43

## DIP28 [mm] "DIP28"
height 3.81
pads (28):
  rect 1.5x1.5 hole 0.9: 1(-16.51,-3.81)
  round 1.5 hole 0.9: 2(-13.97,-3.81) 3(-11.43,-3.81) 4(-8.89,-3.81) 5(-6.35,-3.81) 6(-3.81,-3.81) 7(-1.27,-3.81) 8(1.27,-3.81) 9(3.81,-3.81) 10(6.35,-3.81) 11(8.89,-3.81) 12(11.43,-3.81) 13(13.97,-3.81) 14(16.51,-3.81) 15(16.51,3.81) 16(13.97,3.81) 17(11.43,3.81) 18(8.89,3.81) 19(6.35,3.81) 20(3.81,3.81) 21(1.27,3.81) 22(-1.27,3.81) 23(-3.81,3.81) 24(-6.35,3.81) 25(-8.89,3.81) 26(-11.43,3.81) 27(-13.97,3.81) 28(-16.51,3.81)
Top Overlay:
  lines w0.178: -18.2,-0.635 -18.2,-2.65 18.161,-2.65 18.161,2.65 -18.2,2.65 -18.2,0.635
  lines w0.2: -18.2,-0.635 ccw(c-18.2,0) -18.2,0.635
3D body: height 0.25, standoff -0.76, extent -16.888,-4.19 -16.129,-3.43
3D body: height 0.25, standoff -0.76, extent -14.348,-4.19 -13.589,-3.43
3D body: height 0.25, standoff -0.76, extent -11.808,-4.19 -11.049,-3.43
3D body: height 0.25, standoff -0.76, extent -9.268,-4.19 -8.509,-3.43
3D body: height 0.25, standoff -0.76, extent -6.728,-4.19 -5.969,-3.43
3D body: height 0.25, standoff -0.76, extent -4.188,-4.19 -3.429,-3.43
3D body: height 0.25, standoff -0.76, extent -1.648,-4.19 -0.889,-3.43
3D body: height 0.25, standoff -0.76, extent 0.892,-4.19 1.651,-3.43
3D body: height 0.25, standoff -0.76, extent 3.432,-4.19 4.191,-3.43
3D body: height 0.25, standoff -0.76, extent 5.972,-4.19 6.731,-3.43
3D body: height 0.25, standoff -0.76, extent 8.512,-4.19 9.271,-3.43
3D body: height 0.25, standoff -0.76, extent 11.052,-4.19 11.811,-3.43
3D body: height 0.25, standoff -0.76, extent 13.592,-4.19 14.351,-3.43
3D body: height 0.25, standoff -0.76, extent 16.132,-4.19 16.891,-3.43
3D body: height 0.25, standoff -0.76, extent 16.132,3.43 16.891,4.19
3D body: height 0.25, standoff -0.76, extent 13.592,3.43 14.351,4.19
3D body: height 0.25, standoff -0.76, extent 11.052,3.43 11.811,4.19
3D body: height 0.25, standoff -0.76, extent 8.512,3.43 9.271,4.19
3D body: height 0.25, standoff -0.76, extent 5.972,3.43 6.731,4.19
3D body: height 0.25, standoff -0.76, extent 3.432,3.43 4.191,4.19
3D body: height 0.25, standoff -0.76, extent 0.892,3.43 1.651,4.19
3D body: height 0.25, standoff -0.76, extent -1.648,3.43 -0.889,4.19
3D body: height 0.25, standoff -0.76, extent -4.188,3.43 -3.429,4.19
3D body: height 0.25, standoff -0.76, extent -6.728,3.43 -5.969,4.19
3D body: height 0.25, standoff -0.76, extent -9.268,3.43 -8.509,4.19
3D body: height 0.25, standoff -0.76, extent -11.808,3.43 -11.049,4.19
3D body: height 0.25, standoff -0.76, extent -14.348,3.43 -13.589,4.19
3D body: height 0.25, standoff -0.76, extent -16.888,3.43 -16.129,4.19
3D body: height 1.27, standoff 0.25, extent 11.049,2.794 11.811,4.191
3D body: height 1.27, standoff 0.25, extent 8.509,2.794 9.271,4.191
3D body: height 1.27, standoff 0.25, extent 13.589,2.794 14.351,4.191
3D body: height 1.27, standoff 0.25, extent 16.129,2.794 16.891,4.191
3D body: height 1.27, standoff 0.25, extent 5.969,-4.191 6.731,-2.794
3D body: height 1.27, standoff 0.25, extent 0.889,-4.191 1.651,-2.794
3D body: height 1.27, standoff 0.25, extent 3.429,-4.191 4.191,-2.794
3D body: height 1.27, standoff 0.25, extent -1.651,-4.191 -0.889,-2.794
3D body: height 2.54, standoff 0.25, extent -18.288,-2.794 18.288,2.794
3D body: height 1.27, standoff 0.25, extent 8.509,-4.191 9.271,-2.794
3D body: height 1.27, standoff 0.25, extent 11.049,-4.191 11.811,-2.794
3D body: height 1.27, standoff 0.25, extent -4.191,-4.191 -3.429,-2.794
3D body: height 1.27, standoff 0.25, extent -6.731,-4.191 -5.969,-2.794
3D body: height 1.27, standoff 0.25, extent -14.351,-4.191 -13.589,-2.794
3D body: height 1.27, standoff 0.25, extent -11.811,-4.191 -11.049,-2.794
3D body: height 1.27, standoff 0.25, extent -16.891,-4.191 -16.129,-2.794
3D body: height 1.27, standoff 0.25, extent -9.271,-4.191 -8.509,-2.794
3D body: height 1.27, standoff 0.25, extent 3.429,2.794 4.191,4.191
3D body: height 1.27, standoff 0.25, extent 5.969,2.794 6.731,4.191
3D body: height 1.27, standoff 0.25, extent -4.191,2.794 -3.429,4.191
3D body: height 1.27, standoff 0.25, extent -6.731,2.794 -5.969,4.191
3D body: height 1.27, standoff 0.25, extent -1.651,2.794 -0.889,4.191
3D body: height 1.27, standoff 0.25, extent 0.889,2.794 1.651,4.191
3D body: height 1.27, standoff 0.25, extent -9.271,2.794 -8.509,4.191
3D body: height 1.27, standoff 0.25, extent -11.811,2.794 -11.049,4.191
3D body: height 1.27, standoff 0.25, extent -16.891,2.794 -16.129,4.191
3D body: height 1.27, standoff 0.25, extent -14.351,2.794 -13.589,4.191
3D body: height 1.27, standoff 0.25, extent 16.129,-4.191 16.891,-2.794
3D body: height 1.27, standoff 0.25, extent 13.589,-4.191 14.351,-2.794